# EAGLE library part A4940 (library 000_CustomPartsMaster)
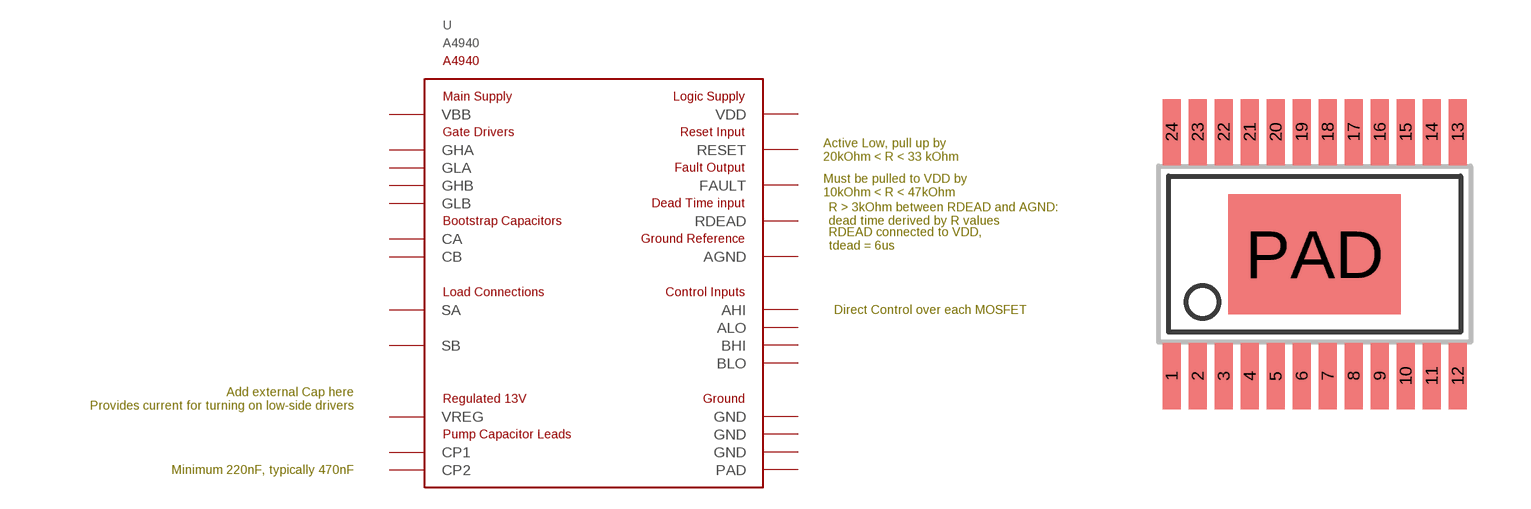
[diagram p25: symbol with the pads of LP_24-PIN_TSSOP; footprint LP_24-PIN_TSSOP]

Designator prefix -

## A4940  [LP_24-PIN_TSSOP]
1  RESET
2  GND
3  GLB
4  SB
5  GHB
6  CB
7  VREG
8  CA
9  GHA
10  SA
11  GLA
12  VBB
13  CP2
14  CP1
15  GND
16  GND
17  BLO
18  BHI
19  ALO
20  AHI
21  VDD
22  AGND
23  RDEAD
24  FAULT
PAD  PAD

## Footprint LP_24-PIN_TSSOP (pad centres in mm)
smd 0.45 x 1.65: 1 -3.575,-3.05; 2 -2.925,-3.05; 3 -2.275,-3.05; 4 -1.625,-3.05; 5 -0.975,-3.05; 6 -0.325,-3.05; 7 0.325,-3.05; 8 0.975,-3.05; 9 1.625,-3.05; 10 2.275,-3.05; 11 2.925,-3.05; 12 3.575,-3.05; 13 3.575,3.05; 14 2.925,3.05; 15 2.275,3.05; 16 1.625,3.05; 17 0.975,3.05; 18 0.325,3.05; 19 -0.325,3.05; 20 -0.975,3.05; 21 -1.625,3.05; 22 -2.275,3.05; 23 -2.925,3.05; 24 -3.575,3.05
smd 4.32 x 3: PAD 0,0